# EAGLE library part NRF8001 (library squirrel)
nRF8001 - Bluetooth Low-Energy Transceiver VDD: 1.9-3.6V Temp: -40°C - 85°C
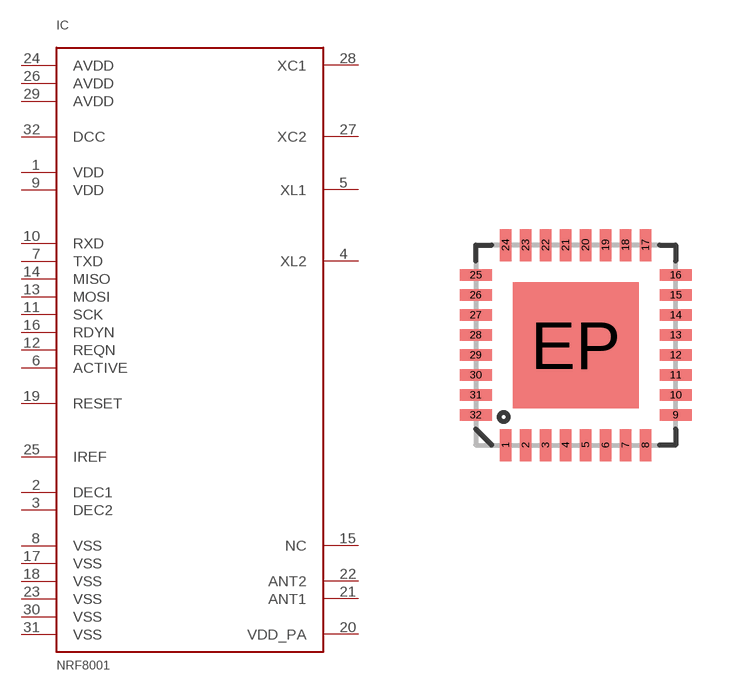
[diagram p0: symbol with the pads of QFN-32; footprint QFN-32]

Designator prefix IC

## NRF8001  [QFN-32]
1  VDD  pwr
2  DEC1
3  DEC2
4  XL2  out
5  XL1  in
6  ACTIVE  out
7  TXD  out
8  VSS  pwr
9  VDD  pwr
10  RXD  in
11  SCK  in
12  REQN  in
13  MOSI  in
14  MISO  out
15  NC  nc
16  RDYN  out
17  VSS  pwr
18  VSS  pwr
19  RESET  in
20  VDD_PA
21  ANT1
22  ANT2
23  VSS  pwr
24  AVDD  pwr
25  IREF  out
26  AVDD  pwr
27  XC2  out
28  XC1  in
29  AVDD  pwr
30  VSS  pwr
31  VSS  pwr
32  DCC

## Footprint QFN-32 (pad centres in mm)
QFN 32-Pin package w/ Thermal Pad
smd 0.285 x 0.8: 1 -1.75,-2.5; 2 -1.25,-2.5; 3 -0.75,-2.5; 4 -0.25,-2.5; 5 0.25,-2.5; 6 0.75,-2.5; 7 1.25,-2.5; 8 1.75,-2.5; 17 1.75,2.5; 18 1.25,2.5; 19 0.75,2.5; 20 0.25,2.5; 21 -0.25,2.5; 22 -0.75,2.5; 23 -1.25,2.5; 24 -1.75,2.5
smd 0.8 x 0.285: 9 2.5,-1.75; 10 2.5,-1.25; 11 2.5,-0.75; 12 2.5,-0.25; 13 2.5,0.25; 14 2.5,0.75; 15 2.5,1.25; 16 2.5,1.75; 25 -2.5,1.75; 26 -2.5,1.25; 27 -2.5,0.75; 28 -2.5,0.25; 29 -2.5,-0.25; 30 -2.5,-0.75; 31 -2.5,-1.25; 32 -2.5,-1.75
smd 3.15 x 3.15: EP 0,0